# Altium schematic symbol library ELECTROMECHANICAL.SchLib: 4 symbols
Pins are listed as number, name and electrical type; pins without a type are passive.

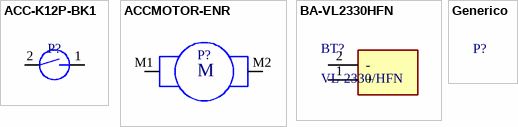
[diagram p0: symbols ACC-K12P-BK1 to Generico]

## ACC-K12P-BK1
designator P?
Manufacturer Part Number: K12P BK 1.5 5N; Manufacturer: C&K; Working Temperature: -40°C ~ 85°C; Temperature Coefficient: NC; Short Description: SWITCH PUSH SPST-NO 0.1A 30V; Ratings: REACH, ROHS3; Current: 100mA; Voltage: 30V; Value: NC; Mounting: THT; Power: NC; Type: Keyswitch; Frequency: NC; Alternate Part Number 1: *; Alternate Part Number 2: *; Tolerance: NC; Revision Date: 03/08/21; Package Reference: *
footprint K12P BK 1.5 5N
pins: 1, 2

## ACCMOTOR-ENR
designator P?
Micro Metal Gearmotors, 12 CPR, 2.7-18V; Manufacturer Part Number: *; Working Temperature: *; Temperature Coefficient: *; Mounting: SMT; Short Description: *; Power: *; Ratings: *; Type: *; Frequency: *; Alternate Part Number 1: *; Alternate Part Number 2: *; Manufacturer: *; Tolerance: *; Current: *; Revision Date: 15/10/21; Package Reference: *; Voltage: *; Value: *
footprint MOTOR_ENR (Footprint not found)
pins: M1 1, M2 2
text: M

## BA-VL2330HFN
designator BT?, comment VL-2330/HFN
Coin Cell Battery 3V 50mAH RECHG W/TABS. Vanadium Pentoxide Lithium; Manufacturer_Name: Panasonic; Datasheet Link: https://industrial.panasonic.com/ww/products/pt/coin_rechargeable_lithium/models/VL2020; Height: 4.05mm; Manufacturer_Part_Number: VL-2330/HFN; Mounting: Through hole
footprint VL2330HFN
pins: 1 +, 2 -

## Generico
designator P?
Manufacturer Part Number: *; Working Temperature: *; Temperature Coefficient: *; Mounting: *; Short Description: *; Power: *; Ratings: *; Type: *; Frequency: *; Alternate Part Number 1: *; Alternate Part Number 2: *; Manufacturer: *; Tolerance: *; Current: *; Revision Date: *; Package Reference: *; Voltage: *; Value: *